# Altium schematic symbol library 12065A5R6DAT2A.SchLib: 1 symbol
Pins are listed as number, name and electrical type; pins without a type are passive.

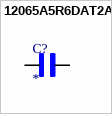
[diagram p0: symbol 12065A5R6DAT2A]

## 12065A5R6DAT2A
designator C?
CAP CER 5.6PF 50V C0G/NP0 1206; MF: {'manufacturer': u'AVX'}; MP: 12065A5R6DAT2A; Package: None; Price: None; Value: *; Availability: Unavailable
footprint CAPC3216X94N
pins: 1, 2